# EAGLE library part EHF20-* (library con-samtec-ehf)
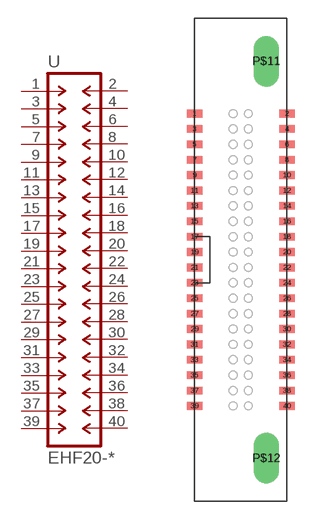
[diagram p1: symbol with the pads of EHF40; footprint EHF40]

Designator prefix -

## EHF20-  [EHF40]
1  1  pas
2  2  pas
3  3  pas
4  4  pas
5  5  pas
6  6  pas
7  7  pas
8  8  pas
9  9  pas
10  10  pas
11  11  pas
12  12  pas
13  13  pas
14  14  pas
15  15  pas
16  16  pas
17  17  pas
18  18  pas
19  19  pas
20  20  pas
21  21  pas
22  22  pas
23  23  pas
24  24  pas
25  25  pas
26  26  pas
27  27  pas
28  28  pas
29  29  pas
30  30  pas
31  31  pas
32  32  pas
33  33  pas
34  34  pas
35  35  pas
36  36  pas
37  37  pas
38  38  pas
39  39  pas
40  40  pas

## Footprint EHF40 (pad centres in mm)
smd 1.27 x 0.635: 1 -3.81,12.065; 2 3.81,12.065; 3 -3.81,10.795; 4 3.81,10.795; 5 -3.81,9.525; 6 3.81,9.525; 7 -3.81,8.255; 8 3.81,8.255; 9 -3.81,6.985; 10 3.81,6.985; 11 -3.81,5.715; 12 3.81,5.715; 13 -3.81,4.445; 14 3.81,4.445; 15 -3.81,3.175; 16 3.81,3.175; 17 -3.81,1.905; 18 3.81,1.905; 19 -3.81,0.635; 20 3.81,0.635; 21 -3.81,-0.635; 22 3.81,-0.635; 23 -3.81,-1.905; 24 3.81,-1.905; 25 -3.81,-3.175; 26 3.81,-3.175; 27 -3.81,-4.445; 28 3.81,-4.445; 29 -3.81,-5.715; 30 3.81,-5.715; 31 -3.81,-6.985; 32 3.81,-6.985; 33 -3.81,-8.255; 34 3.81,-8.255; 35 -3.81,-9.525; 36 3.81,-9.525; 37 -3.81,-10.795; 38 3.81,-10.795; 39 -3.81,-12.065; 40 3.81,-12.065
drill 1.397 long: P$11 2.108,16.383; P$12 2.108,-16.383